# EAGLE library part IMZ64R868-100 (library misc)
Universal radio module ISM band AURA INTEGRA-M
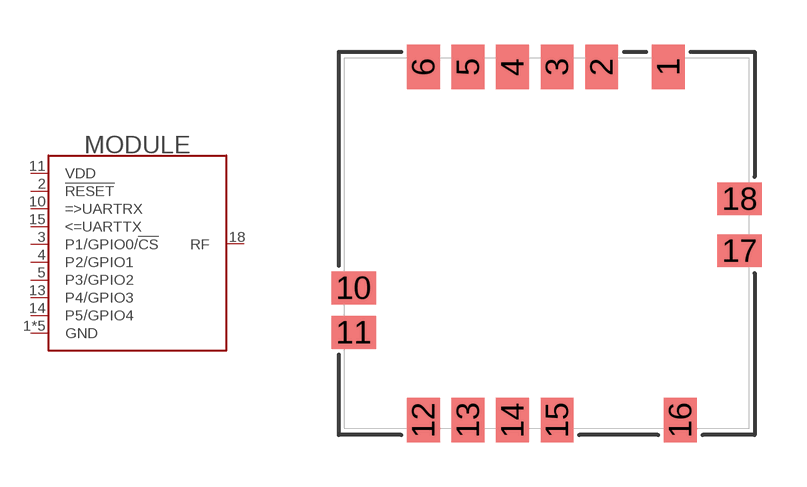
[diagram p87: symbol with the pads of ZM5202; footprint ZM5202]

Designator prefix MODULE

## IMZ64R868-100 (MANF: AURA; MANF#: Integra-M)  [ZM5202]
1  GND
2  !RESET
3  P1/GPIO0/!CS
4  P2/GPIO1
5  P3/GPIO2
6  GND
10  =>UARTRX
11  VDD
12  GND
13  P4/GPIO3
14  P5/GPIO4
15  <=UARTTX
16  GND
17  GND
18  RF

## Footprint ZM5202 (pad centres in mm)
smd 1.1 x 1.5: 1 4.1,5.95; 2 1.85,5.95; 3 0.35,5.95; 4 -1.15,5.95; 5 -2.65,5.95; 6 -4.15,5.95; 12 -4.15,-5.95; 13 -2.65,-5.95; 14 -1.15,-5.95; 15 0.35,-5.95; 16 4.5,-5.95
smd 1.5 x 1.1: 10 -6.5,-1.5; 11 -6.5,-3; 17 6.5,-0.25; 18 6.5,1.5